# Altium footprint library Newport Components Footprints.PcbLib: 38 footprints (part 2 of 3)
Each footprint in its own frame and in the unit in brackets; x right, y up, seen from the top. Pads: shape width x height; smd on the part's side, far side on the other; paste and mask are expansions set on the pad; w line width, h text height; cw(c..) or ccw(c..) is an arc to the next point about the centre after c.
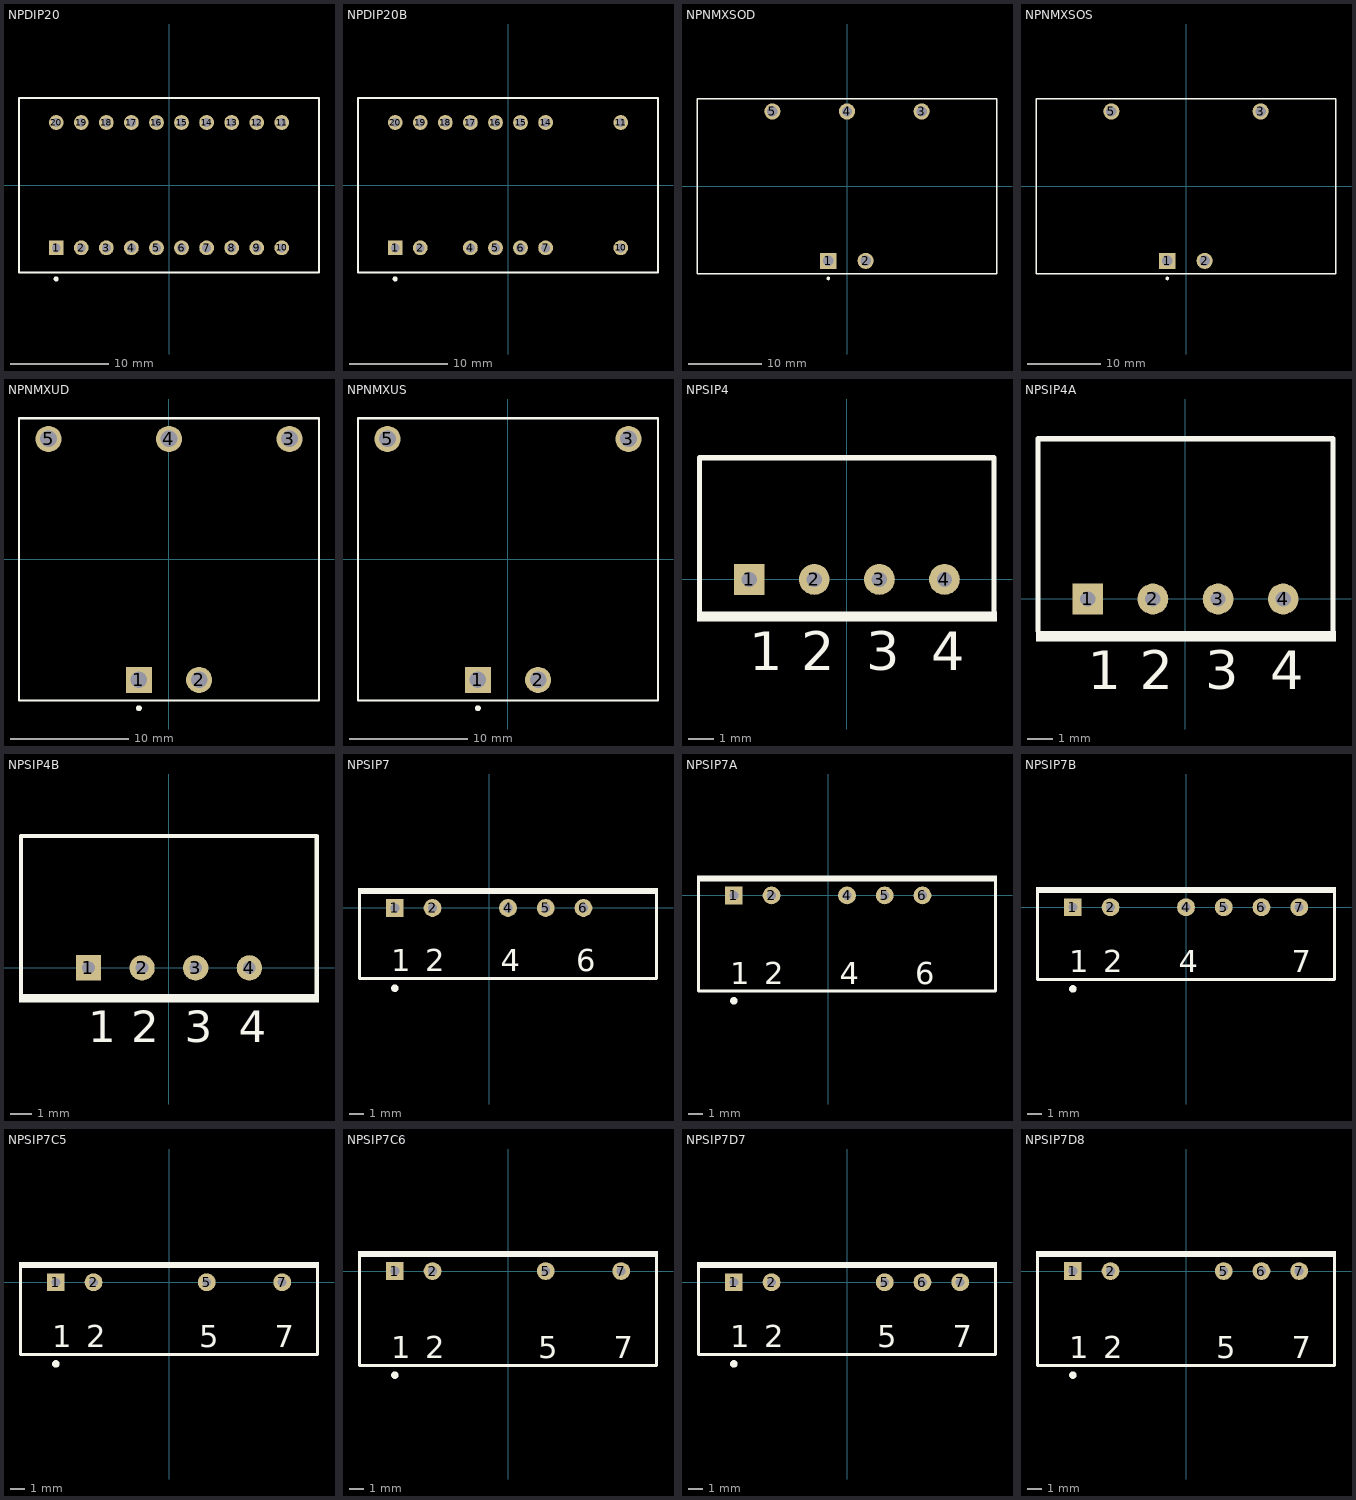
[diagram p1: the footprints below, top view; thin cyan lines are the x and y axes]

## NPDIP20 [mm] "DIP; 20 Round Pins; Row Space 12.7 mm; Pitch 2.54 mm"
height 9.25
pads (20):
  rect 1.5x1.5 hole 0.9: 1(-11.43,-6.35)
  round 1.5 hole 0.9: 2(-8.89,-6.35) 3(-6.35,-6.35) 4(-3.81,-6.35) 5(-1.27,-6.35) 6(1.27,-6.35) 7(3.81,-6.35) 8(6.35,-6.35) 9(8.89,-6.35) 10(11.43,-6.35) 11(11.43,6.35) 12(8.89,6.35) 13(6.35,6.35) 14(3.81,6.35) 15(1.27,6.35) 16(-1.27,6.35) 17(-3.81,6.35) 18(-6.35,6.35) 19(-8.89,6.35) 20(-11.43,6.35)
Top Overlay:
  circle w0.25: c-11.43,-9.5 r0.125
  lines w0.2: -15.2,-8.85 15.2,-8.85 15.2,8.85 -15.2,8.85 -15.2,-0.635 -15.2,-8.85

## NPDIP20B [mm] "DIP; 20 Round Pins (5 Absent); Row Space 12.7 mm; Pitch 2.54 mm"
height 9.25
pads (15):
  rect 1.5x1.5 hole 0.9: 1(-11.43,-6.35)
  round 1.5 hole 0.9: 2(-8.89,-6.35) 4(-3.81,-6.35) 5(-1.27,-6.35) 6(1.27,-6.35) 7(3.81,-6.35) 10(11.43,-6.35) 11(11.43,6.35) 14(3.81,6.35) 15(1.27,6.35) 16(-1.27,6.35) 17(-3.81,6.35) 18(-6.35,6.35) 19(-8.89,6.35) 20(-11.43,6.35)
Top Overlay:
  circle w0.25: c-11.43,-9.5 r0.125
  lines w0.2: -15.2,-8.85 -15.2,-0.635 -15.2,8.85 15.2,8.85 15.2,-8.85 -15.2,-8.85

## NPNMXSOD [mm] "DIP; 18 Round Pins (13 Absent); Row Space 20.32 mm; Pitch 2.54 mm"
height 10
pads (5):
  rect 2.2x2.2 hole 1.4: 1(-2.54,-10.16)
  round 2.2 hole 1.4: 2(2.54,-10.16) 3(10.16,10.16) 4(0,10.16) 5(-10.16,10.16)
Top Overlay:
  circle w0.25: c-2.54,-12.55 r0.125
  lines w0.2: -20.4,-11.9 20.4,-11.9 20.4,11.9 -20.4,11.9 -20.4,-0.635 -20.4,-11.9

## NPNMXSOS [mm] "DIP; 18 Round Pins (14 Absent); Row Space 20.32 mm; Pitch 2.54 mm"
height 10
pads (4):
  rect 2.2x2.2 hole 1.4: 1(-2.54,-10.16)
  round 2.2 hole 1.4: 2(2.54,-10.16) 3(10.16,10.16) 5(-10.16,10.16)
Top Overlay:
  circle w0.25: c-2.54,-12.55 r0.125
  lines w0.2: -20.4,-11.9 20.4,-11.9 20.4,11.9 -20.4,11.9 -20.4,-0.635 -20.4,-11.9

## NPNMXUD [mm] "DIP; 18 Round Pins (13 Absent); Row Space 20.32 mm; Pitch 2.54 mm"
height 10
pads (5):
  rect 2.2x2.2 hole 1.4: 1(-2.54,-10.16)
  round 2.2 hole 1.4: 2(2.54,-10.16) 3(10.16,10.16) 4(0,10.16) 5(-10.16,10.16)
Top Overlay:
  circle w0.25: c-2.54,-12.55 r0.125
  lines w0.2: -12.65,-11.9 12.65,-11.9 12.65,11.9 -12.65,11.9 -12.65,-0.635 -12.65,-11.9

## NPNMXUS [mm] "DIP; 18 Round Pins (14 Absent); Row Space 20.32 mm; Pitch 2.54 mm"
height 10
pads (4):
  rect 2.2x2.2 hole 1.4: 1(-2.54,-10.16)
  round 2.2 hole 1.4: 2(2.54,-10.16) 3(10.16,10.16) 5(-10.16,10.16)
Top Overlay:
  circle w0.25: c-2.54,-12.55 r0.125
  lines w0.2: -12.65,-11.9 12.65,-11.9 12.65,11.9 -12.65,11.9 -12.65,-0.635 -12.65,-11.9

## NPSIP4 [mm] "SIP; 4 Leads; Body 10 x 11.5 x 6 mm (typ); Pitch 2.54 mm"
height 10.6
pads (4):
  rect 1.2x1.2 hole 0.6: 1(-3.81,0)
  round 1.2 hole 0.6: 2(-1.27,0) 3(1.27,0) 4(3.81,0)
Top Overlay:
  rectangle: -5.85,-1.65 5.86,-1.25
  lines w0.2: -5.75,-1.25 -5.75,4.75 5.75,4.75 5.75,-1.25
  text "1" at -3.81,-3.544 h1.5
  text "2" at -1.778,-3.544 h1.5
  text "3" at 0.762,-3.544 h1.5
  text "4" at 3.302,-3.544 h1.5

## NPSIP4A [mm] "SIP; 4 Leads; Body 10 x 11.5 x 7.5 mm (typ); Pitch 2.54 mm"
height 10.6
pads (4):
  rect 1.2x1.2 hole 0.6: 1(-3.81,0)
  round 1.2 hole 0.6: 2(-1.27,0) 3(1.27,0) 4(3.81,0)
Top Overlay:
  rectangle: -5.83,-1.65 5.87,-1.25
  lines w0.2: -5.75,-1.25 -5.75,6.25 5.75,6.25 5.75,-1.25
  text "1" at -3.81,-3.52 h1.5
  text "2" at -1.778,-3.52 h1.5
  text "3" at 0.762,-3.52 h1.5
  text "4" at 3.302,-3.52 h1.5

## NPSIP4B [mm] "SIP; 4 Leads; Body 10 x 14 x 7.5 mm (typ); Pitch 2.54 mm"
height 10.6
pads (4):
  rect 1.2x1.2 hole 0.6: 1(-3.81,0)
  round 1.2 hole 0.6: 2(-1.27,0) 3(1.27,0) 4(3.81,0)
Top Overlay:
  rectangle: -7.1,-1.65 7.11,-1.25
  lines w0.2: -7,-1.25 -7,6.25 7,6.25 7,-1.25
  text "1" at -3.81,-3.52 h1.5
  text "2" at -1.778,-3.52 h1.5
  text "3" at 0.762,-3.52 h1.5
  text "4" at 3.302,-3.52 h1.5

## NPSIP7 [mm] "SIP; 7 Leads (2 Absent); Body 19.5 x 6 mm (LxW typ); Pitch 2.54 mm"
height 10
pads (5):
  rect 1.2x1.2 hole 0.6: 1(-6.35,0)
  round 1.2 hole 0.6: 2(-3.81,0) 4(1.27,0) 5(3.81,0) 6(6.35,0)
Top Overlay:
  circle w0.25: c-6.35,-5.4 r0.125
  rectangle: -8.83,0.95 11.37,1.35
  lines w0.2: -8.73,1.25 -8.73,-4.75 11.27,-4.75 11.27,1.25
  text "1" at -6.6,-4.275 h1.5
  text "6" at 5.85,-4.275 h1.5
  text "2" at -4.31,-4.275 h1.5
  text "4" at 0.77,-4.275 h1.5

## NPSIP7A [mm] "SIP; 7 Leads (2 Absent); Body 19.5 x 7.6 mm (LxW typ); Pitch 2.54 mm"
height 10
pads (5):
  rect 1.2x1.2 hole 0.6: 1(-6.35,0)
  round 1.2 hole 0.6: 2(-3.81,0) 4(1.27,0) 5(3.81,0) 6(6.35,0)
Top Overlay:
  circle w0.25: c-6.35,-7.1 r0.125
  rectangle: -8.83,0.95 11.37,1.35
  lines w0.2: -8.73,1.25 -8.73,-6.45 11.27,-6.45 11.27,1.25
  text "1" at -6.6,-5.975 h1.5
  text "6" at 5.85,-5.975 h1.5
  text "2" at -4.31,-5.975 h1.5
  text "4" at 0.77,-5.975 h1.5

## NPSIP7B [mm] "SIP; 7 Leads (1 Absent); Body 19.5 x 6 mm (LxW typ); Pitch 2.54 mm"
height 10
pads (6):
  rect 1.2x1.2 hole 0.6: 1(-7.62,0)
  round 1.2 hole 0.6: 2(-5.08,0) 4(0,0) 5(2.54,0) 6(5.08,0) 7(7.62,0)
Top Overlay:
  circle w0.25: c-7.62,-5.5 r0.125
  rectangle: -10.1,0.95 10.1,1.35
  lines w0.2: -10,1.25 -10,-4.85 10,-4.85 10,1.25
  text "1" at -7.87,-4.375 h1.5
  text "7" at 7.12,-4.375 h1.5
  text "4" at -0.5,-4.375 h1.5
  text "2" at -5.58,-4.375 h1.5

## NPSIP7C5 [mm] "SIP; 7 Leads (3 Absent); Body 19.5 x 6 mm (LxW typ); Pitch 2.54 mm"
height 10
pads (4):
  rect 1.2x1.2 hole 0.6: 1(-7.62,0)
  round 1.2 hole 0.6: 2(-5.08,0) 5(2.54,0) 7(7.62,0)
Top Overlay:
  circle w0.25: c-7.62,-5.5 r0.125
  rectangle: -10.1,0.95 10.1,1.35
  lines w0.2: -10,1.25 -10,-4.85 10,-4.85 10,1.25
  text "5" at 2.04,-4.375 h1.5
  text "2" at -5.58,-4.375 h1.5
  text "7" at 7.12,-4.375 h1.5
  text "1" at -7.87,-4.375 h1.5

## NPSIP7C6 [mm] "SIP; 7 Leads (3 Absent); Body 19.5 x 7.5 mm (LxW typ); Pitch 2.54 mm"
height 10
pads (4):
  rect 1.2x1.2 hole 0.6: 1(-7.62,0)
  round 1.2 hole 0.6: 2(-5.08,0) 5(2.54,0) 7(7.62,0)
Top Overlay:
  circle w0.25: c-7.62,-7 r0.125
  rectangle: -10.1,0.95 10.1,1.35
  lines w0.2: -10,1.25 -10,-6.35 10,-6.35 10,1.25
  text "2" at -5.58,-5.875 h1.5
  text "5" at 2.04,-5.875 h1.5
  text "1" at -7.87,-5.875 h1.5
  text "7" at 7.12,-5.875 h1.5

## NPSIP7D7 [mm] "SIP; 7 Leads (2 Absent); Body 19.5 x 6 mm (LxW typ); Pitch 2.54 mm"
height 10
pads (5):
  rect 1.2x1.2 hole 0.6: 1(-7.62,0)
  round 1.2 hole 0.6: 2(-5.08,0) 5(2.54,0) 6(5.08,0) 7(7.62,0)
Top Overlay:
  circle w0.25: c-7.62,-5.5 r0.125
  rectangle: -10.1,0.95 10.1,1.35
  lines w0.2: -10,1.25 -10,-4.85 10,-4.85 10,1.25
  text "2" at -5.58,-4.375 h1.5
  text "5" at 2.04,-4.375 h1.5
  text "1" at -7.87,-4.375 h1.5
  text "7" at 7.12,-4.375 h1.5

## NPSIP7D8 [mm] "SIP; 7 Leads (2 Absent); Body 19.5 x 7.5 mm (LxW typ); Pitch 2.54 mm"
height 10
pads (5):
  rect 1.2x1.2 hole 0.6: 1(-7.62,0)
  round 1.2 hole 0.6: 2(-5.08,0) 5(2.54,0) 6(5.08,0) 7(7.62,0)
Top Overlay:
  circle w0.25: c-7.62,-7 r0.125
  rectangle: -10.1,0.95 10.1,1.35
  lines w0.2: -10,1.25 -10,-6.35 10,-6.35 10,1.25
  text "2" at -5.58,-5.875 h1.5
  text "5" at 2.04,-5.875 h1.5
  text "7" at 7.12,-5.875 h1.5
  text "1" at -7.87,-5.875 h1.5